# Altium footprint library Passives.PcbLib: 126 footprints (part 7 of 8)
Each footprint in its own frame and in the unit in brackets; x right, y up, seen from the top. Pads: shape width x height; smd on the part's side, far side on the other; paste and mask are expansions set on the pad; w line width, h text height; cw(c..) or ccw(c..) is an arc to the next point about the centre after c.
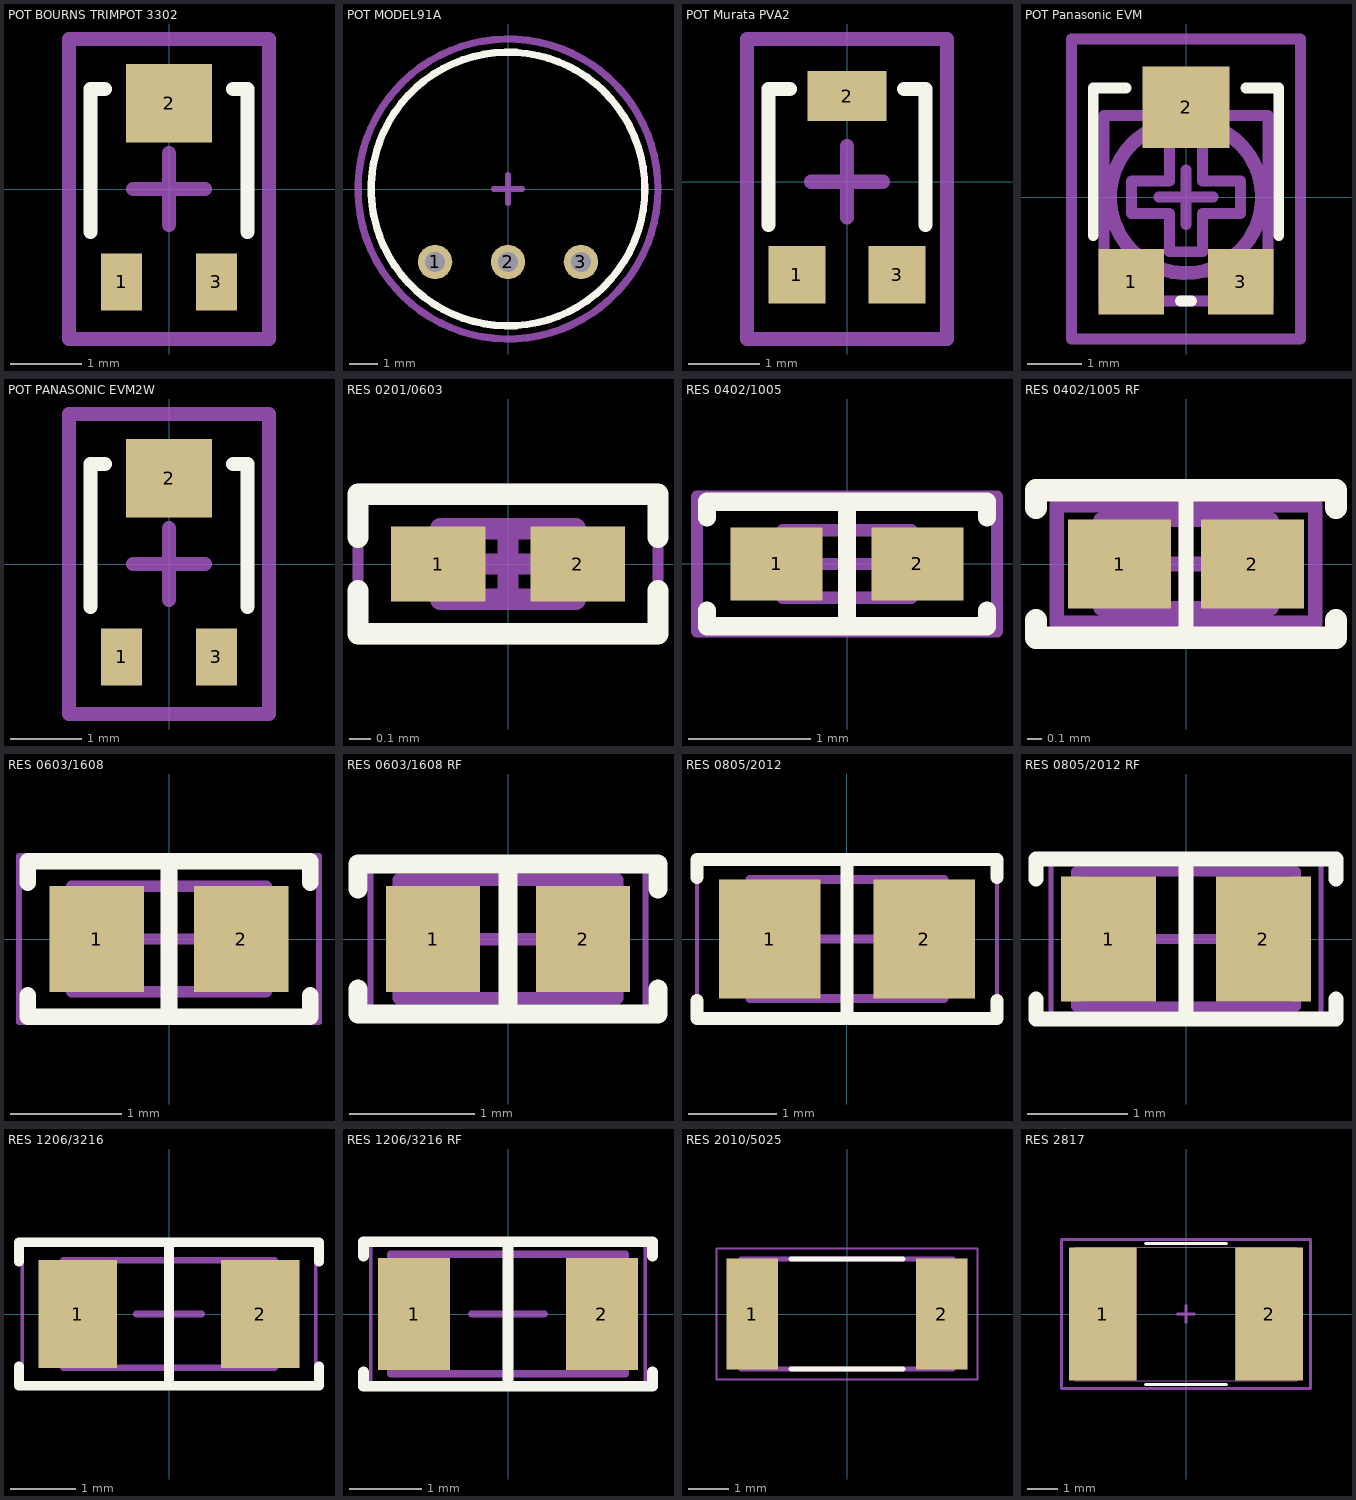
[diagram p6: the footprints below, top view; thin cyan lines are the x and y axes]

## POT BOURNS TRIMPOT 3302 [mm] "Bourns Trimpot 3302 - Open Frame 2.75mm x 2.20mm x 1.05mm"
height 1.05
pads (3):
  rect 0.575x0.8 smd: 1(-0.663,-1.3) 3(0.663,-1.3)
  rect 1.2x1.1 smd: 2(0,1.2)
Top Overlay:
  lines w0.2: -1.1,-0.6 -1.1,1.4 -0.9,1.4 ; 0.9,1.4 1.1,1.4 1.1,-0.6
Top Courtyard:
  lines w0.2: -0.5,0 0.5,0 ; 0,-0.5 0,0.5 ; -1.4,-2.1 -1.4,2.1 1.4,2.1 1.4,-2.1 -1.4,-2.1
3D body "Panasonic EVM2W.STEP": height 0.81, standoff 0, extent -1.1,-1.3 1.1,1.45

## POT MODEL91A [mm]
height 5.08
pads (3):
  round 1.2 hole 0.7: 1(-2.54,-2.54) 2(0,-2.54) 3(2.54,-2.54)
Top Overlay:
  circle w0.254: c0,0 r4.763
Top Courtyard:
  circle w0.254: c0,0 r5.22
  lines w0.2: -0.5,0 0.5,0 ; 0,-0.5 0,0.5
3D body "91A-1 mod.STEP": height 4.89, standoff -1.79, extent -4.681,-4.877 4.681,4.699

## POT Murata PVA2 [mm] "Murata PVA2 2.75mm x 2.20mm x 0.80mm"
height 0.8
pads (3):
  rect 0.8x0.8 smd: 1(-0.7,-1.3) 3(0.7,-1.3)
  rect 1.1x0.7 smd: 2(0,1.2)
Top Overlay:
  lines w0.2: -1.1,-0.6 -1.1,1.3 -0.8,1.3 ; 0.8,1.3 1.1,1.3 1.1,-0.6
Top Courtyard:
  lines w0.2: -0.5,0 0.5,0 ; 0,-0.5 0,0.5 ; -1.4,-2.2 -1.4,2 1.4,2 1.4,-2.2 -1.4,-2.2
3D body "Murata PVA2.STEP": height 0.8, standoff 0, extent -1.1,-1.45 1.1,1.3

## POT Panasonic EVM [mm] "Panasonic EVM3Y 3.45mm x 3.10mm x 1.55mm"
height 1.55
pads (3):
  rect 1.2x1.2 smd: 1(-1,-1.55) 3(1,-1.55)
  rect 1.6x1.5 smd: 2(0,1.65)
Top Overlay:
  lines w0.2: -1.7,-0.7 -1.7,2 -1.1,2 ; -0.1,-1.9 0.1,-1.9 ; 1.1,2 1.7,2 1.7,-0.7
Board:
  circle w0.254: c0,0 r1.393
  lines w0.2: -1.5,-1.9 -1.5,1.5 1.5,1.5 1.5,-1.9 -1.5,-1.9 ; -1,-0.3 -0.3,-0.3 -0.3,-1 0.3,-1 0.3,-0.3 1,-0.3 1,0.3 0.3,0.3 0.3,1 -0.3,1 -0.3,0.3 -1,0.3 -1,-0.3
Top Courtyard:
  lines w0.2: -0.5,0 0.5,0 ; 0,-0.5 0,0.5 ; -2.1,-2.6 2.1,-2.6 2.1,2.9 -2.1,2.9 -2.1,-2.6
3D body "Panasonic EVM.STEP": height 1.55, standoff 0, extent -1.55,-1.9 1.55,1.85

## POT PANASONIC EVM2W [mm] "Panasonic EVM2W 2.75mm x 2.20mm x 1.05mm"
height 1.05
pads (3):
  rect 0.575x0.8 smd: 1(-0.663,-1.3) 3(0.663,-1.3)
  rect 1.2x1.1 smd: 2(0,1.2)
Top Overlay:
  lines w0.2: -1.1,-0.6 -1.1,1.4 -0.9,1.4 ; 0.9,1.4 1.1,1.4 1.1,-0.6
Top Courtyard:
  lines w0.2: -0.5,0 0.5,0 ; 0,-0.5 0,0.5 ; -1.4,-2.1 1.4,-2.1 1.4,2.1 -1.4,2.1 -1.4,-2.1
3D body "Panasonic EVM2W.STEP": height 0.81, standoff 0, extent -1.1,-1.3 1.1,1.45

## RES 0201/0603 [mm] "Chip Resistor, 2-Leads, Body 0.60x0.30mm, IPC Medium Density"
height 0.26
pads (2):
  rect 0.44x0.35 smd: 1(-0.325,0) 2(0.325,0)
Top Overlay:
  lines w0.1: -0.7,-0.125 -0.7,-0.325 0.7,-0.325 0.7,-0.125 ; -0.7,0.125 -0.7,0.325 0.7,0.325 0.7,0.125
Top Component Center:
  lines w0.1: -0.165,0 0.165,0 ; 0,-0.165 0,0.165
Top Component Outline:
  lines w0.1: -0.315,-0.165 -0.315,0.165 0.315,0.165 0.315,-0.165 -0.315,-0.165
Top Courtyard:
  lines w0.05: -0.7,-0.35 -0.7,0.35 0.7,0.35 0.7,-0.35 -0.7,-0.35
3D body "RES 0201.STEP": height 0.21, standoff -0.01, extent -0.3,-0.15 0.3,0.15

## RES 0402/1005 [mm] "Chip Resistor, 2-Leads, Body 1.0x0.5mm, IPC Medium Density"
height 0.4
pads (2):
  rect 0.75x0.6 smd: 1(-0.575,0) 2(0.575,0)
Top Overlay:
  lines w0.15: -1.143,-0.381 -1.143,-0.508 1.143,-0.508 1.143,-0.381 ; -1.143,0.381 -1.143,0.508 1.143,0.508 1.143,0.381 ; 0,-0.508 0,0.508
Top Component Center:
  lines w0.1: -0.275,0 0.275,0 ; 0,-0.275 0,0.275
Top Component Outline:
  lines w0.1: -0.525,-0.275 0.525,-0.275 0.525,0.275 -0.525,0.275 -0.525,-0.275
Top Courtyard:
  lines w0.1: -1.225,-0.55 1.225,-0.55 1.225,0.55 -1.225,0.55 -1.225,-0.55
3D body "0402 resistor.STEP": height 0.35, standoff 0, extent -0.5,-0.25 0.5,0.25

## RES 0402/1005 RF [mm] "Chip Resistor, 2-Leads, Body 1.0x0.5mm, IPC High Density"
height 0.4
pads (2):
  rect 0.7x0.6 smd: 1(-0.45,0) 2(0.45,0)
Top Overlay:
  lines w0.1: 0,-0.508 0,0.508
  lines w0.15: -1.016,-0.381 -1.016,-0.5 1.016,-0.5 1.016,-0.381 ; -1.016,0.381 -1.016,0.5 1.016,0.5 1.016,0.381
Top Component Outline:
  lines w0.1: -0.575,-0.3 0.575,-0.3 0.575,0.3 -0.575,0.3 -0.575,-0.3
Top Courtyard:
  lines w0.1: -0.3,0 0.3,0 ; 0,-0.3 0,0.3 ; -0.875,-0.4 0.875,-0.4 0.875,0.4 -0.875,0.4 -0.875,-0.4
3D body "0402 resistor.STEP": height 0.35, standoff 0, extent -0.5,-0.25 0.5,0.25

## RES 0603/1608 [mm] "Chip Resistor, 2-Leads, Body 1.60x0.80mm, IPC Medium Density"
height 0.45
pads (2):
  rect 0.85x0.95 smd: 1(-0.65,0) 2(0.65,0)
Top Overlay:
  lines w0.15: -1.27,-0.508 -1.27,-0.7 1.27,-0.7 1.27,-0.508 ; -1.27,0.508 -1.27,0.7 1.27,0.7 1.27,0.508 ; 0,-0.7 0,0.7
Top Component Center:
  lines w0.1: -0.475,0 0.475,0 ; 0,-0.475 0,0.475
Top Component Outline:
  lines w0.1: -0.875,-0.475 0.875,-0.475 0.875,0.475 -0.875,0.475 -0.875,-0.475
Top Courtyard:
  lines w0.05: -1.35,-0.75 1.35,-0.75 1.35,0.75 -1.35,0.75 -1.35,-0.75
3D body "0603 resistor.STEP": height 0.45, standoff 0, extent -0.8,-0.4 0.8,0.4

## RES 0603/1608 RF [mm] "Chip Resistor, 2-Leads, Body 1.60x0.80mm, IPC High Density"
height 0.45
pads (2):
  rect 0.75x0.85 smd: 1(-0.6,0) 2(0.6,0)
Top Overlay:
  lines w0.15: -1.2,-0.4 -1.2,-0.6 1.2,-0.6 1.2,-0.4 ; -1.2,0.4 -1.2,0.6 1.2,0.6 1.2,0.4 ; 0,-0.6 0,0.6
Top Component Center:
  lines w0.1: -0.475,0 0.475,0 ; 0,-0.475 0,0.475
Top Component Outline:
  lines w0.1: -0.875,-0.475 -0.875,0.475 0.875,0.475 0.875,-0.475 -0.875,-0.475
Top Courtyard:
  lines w0.05: -1.1,-0.6 -1.1,0.6 1.1,0.6 1.1,-0.6 -1.1,-0.6
3D body "0603 resistor.STEP": height 0.45, standoff 0, extent -0.8,-0.4 0.8,0.4

## RES 0805/2012 [mm] "Chip Resistor, 2-Leads, Body 2.00x1.25mm, IPC Medium Density"
height 0.7
pads (2):
  rect 1.15x1.35 smd: 1(-0.875,0) 2(0.875,0)
Top Overlay:
  lines w0.15: -1.7,-0.7 -1.7,-0.9 1.7,-0.9 1.7,-0.7 ; -1.7,0.7 -1.7,0.9 1.7,0.9 1.7,0.7 ; 0,-0.9 0,0.9
Top Component Center:
  lines w0.1: -0.5,0 0.5,0 ; 0,-0.5 0,0.5
Top Component Outline:
  lines w0.1: -1.1,-0.675 1.1,-0.675 1.1,0.675 -1.1,0.675 -1.1,-0.675
Top Courtyard:
  lines w0.05: -1.7,-0.95 1.7,-0.95 1.7,0.95 -1.7,0.95 -1.7,-0.95
3D body "0805 resistor.STEP": height 0.6, standoff 0, extent -0.95,-0.625 1.05,0.625

## RES 0805/2012 RF [mm] "Chip Resistor, 2-Leads, Body 2.00x1.25mm, IPC High Density"
height 0.7
pads (2):
  rect 0.95x1.25 smd: 1(-0.775,0) 2(0.775,0)
Top Overlay:
  lines w0.15: -1.5,-0.6 -1.5,-0.8 1.5,-0.8 1.5,-0.6 ; -1.5,0.6 -1.5,0.8 1.5,0.8 1.5,0.6 ; 0,-0.8 0,0.8
Top Component Center:
  lines w0.1: -0.5,0 0.5,0 ; 0,-0.5 0,0.5
Top Component Outline:
  lines w0.1: -1.1,-0.675 -1.1,0.675 1.1,0.675 1.1,-0.675 -1.1,-0.675
Top Courtyard:
  lines w0.05: -1.35,-0.8 -1.35,0.8 1.35,0.8 1.35,-0.8 -1.35,-0.8
3D body "0805 resistor.STEP": height 0.6, standoff 0, extent -0.95,-0.625 1.05,0.625

## RES 1206/3216 [mm] "Chip Resistor, 2-Leads, Body 3.13x1.55mm, IPC Medium Density"
height 0.7
pads (2):
  rect 1.2x1.65 smd: 1(-1.4,0) 2(1.4,0)
Top Overlay:
  lines w0.15: -2.3,-0.8 -2.3,-1.1 2.3,-1.1 2.3,-0.8 ; -2.3,0.8 -2.3,1.1 2.3,1.1 2.3,0.8 ; 0,-1.1 0,1.1
Top Component Outline:
  lines w0.1: -1.625,-0.825 1.625,-0.825 1.625,0.825 -1.625,0.825 -1.625,-0.825
Top Courtyard:
  lines w0.05: -2.25,-1.1 2.25,-1.1 2.25,1.1 -2.25,1.1 -2.25,-1.1
  lines w0.1: -0.5,0 0.5,0 ; 0,-0.5 0,0.5
3D body "1206 resistor.STEP": height 0.6, standoff 0, extent -1.575,-0.8 1.625,0.8

## RES 1206/3216 RF [mm] "Chip Resistor, 2-Leads, Body 3.13x1.55mm, IPC High Density"
height 0.7
pads (2):
  rect 1x1.55 smd: 1(-1.3,0) 2(1.3,0)
Top Overlay:
  lines w0.15: -2,-0.8 -2,-1 2,-1 2,-0.8 ; -2,0.8 -2,1 2,1 2,0.8 ; 0,-1 0,1
Top Component Outline:
  lines w0.1: -1.625,-0.825 -1.625,0.825 1.625,0.825 1.625,-0.825 -1.625,-0.825
Top Courtyard:
  lines w0.05: -1.9,-0.95 -1.9,0.95 1.9,0.95 1.9,-0.95 -1.9,-0.95
  lines w0.1: -0.5,0 0.5,0 ; 0,-0.5 0,0.5
3D body "1206 resistor.STEP": height 0.6, standoff 0, extent -1.575,-0.8 1.625,0.8

## RES 2010/5025 [mm]
pads (2):
  rect 1.26x2.72 smd: 1(-2.325,0) 2(2.325,0)
Top Overlay:
  lines w0.127: -1.37,-1.35 1.37,-1.35 ; -1.37,1.35 1.37,1.35
Top Component Outline:
  lines w0.127: -2.6,-1.35 2.6,-1.35 2.6,1.35 -2.6,1.35 -2.6,-1.35
Top Courtyard:
  lines w0.05: -3.208,-1.608 3.208,-1.608 3.208,1.608 -3.208,1.608 -3.208,-1.608
3D body "step_temp.STEP": height 0.7, standoff 0, extent -2.5,-1.25 2.5,1.25

## RES 2817 [mil]
pads (2):
  rect 87x173 smd paste+0 mask+0: 1(-108,0) 2(108,0)
Top Overlay:
  lines w3.94: -52.39,-91.5 52.39,-91.5 ; -52.39,91.5 52.39,91.5
Top Component Outline:
  lines w1: -143.5,-86.5 -143.5,86.5 ; -143.5,-86.5 143.5,-86.5 ; -143.5,-86.5 -64.5,-86.5 -64.5,86.5 -143.5,86.5 ; -143.5,-86.5 -143.5,86.5 ; -143.5,86.5 143.5,86.5 ; 143.5,-86.5 143.5,86.5 ; 143.5,-86.5 143.5,86.5 ; 143.5,-86.5 64.5,-86.5 64.5,86.5 143.5,86.5
Top Courtyard:
  lines w3.94: -10.83,0 10.83,0 ; 0,-10.83 0,10.83 ; -161.5,-96.5 161.5,-96.5 161.5,96.5 -161.5,96.5 -161.5,-96.5
3D body "RES_3540_TEC.step": height 47.01, standoff 0, extent -143.5,-86.5 143.5,86.5